# Altium footprint library TSOT23.PcbLib: 1 footprints
Each footprint in its own frame and in the unit in brackets; x right, y up, seen from the top. Pads: shape width x height; smd on the part's side, far side on the other; paste and mask are expansions set on the pad; w line width, h text height; cw(c..) or ccw(c..) is an arc to the next point about the centre after c.
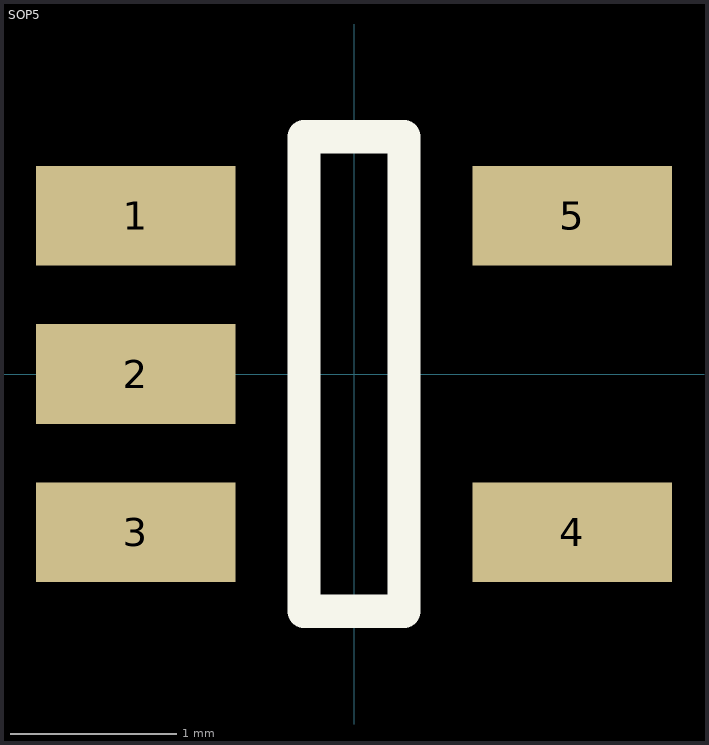
[diagram p0: the footprint, top view; thin cyan lines are the x and y axes]

## SOP5 [mm]
pads (5):
  rect 1.2x0.6 smd: 1(-1.31,0.95) 2(-1.31,0) 3(-1.31,-0.95) 4(1.31,-0.95) 5(1.31,0.95)
Top Overlay:
  lines w0.2: -0.238,1.425 0.3,1.425 0.3,-1.425 -0.3,-1.425 -0.3,1.425 0.238,1.425